# EAGLE library part MAX13433EETD+T (library controller)
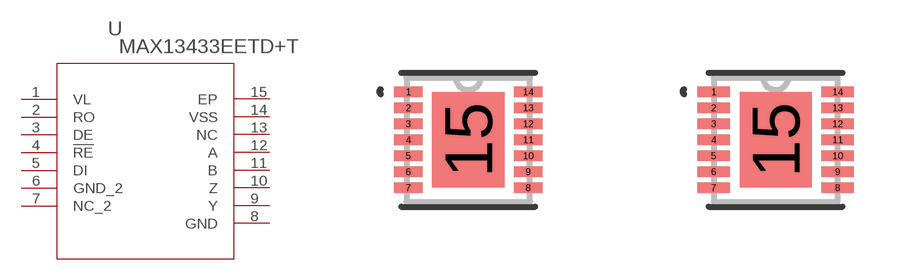
[diagram p7: symbol with the pads of 21-0137I_T1433-1; footprints 21-0137I_T1433-1, 21-0137I_T1433-1-M]

Designator prefix U

## MAX13433EETD+T (MANUFACTURER_PART_NUMBER: MAX13433EETD+T; VENDOR: Maxim Integrated Products)  [21-0137I_T1433-1]
1  VL  pwr
2  RO  out
3  DE  in
4  !RE  in
5  DI  in
6  GND_2  pwr
7  NC_2  nc
8  GND  pwr
9  Y  out
10  Z  out
11  B  in
12  A  pas
13  NC  nc
14  VSS  pwr
15  EP  pwr

## MAX13433EETD+T21-0137I_T1433-1-M (MANUFACTURER_PART_NUMBER: MAX13433EETD+T; VENDOR: Maxim Integrated Products)  [21-0137I_T1433-1-M]
Pads as for 21-0137I_T1433-1

## MAX13433EETD+T21-0137I_T1433-1-L (MANUFACTURER_PART_NUMBER: MAX13433EETD+T; VENDOR: Maxim Integrated Products)  [21-0137I_T1433-1-L]
Pads as for 21-0137I_T1433-1

## Footprint 21-0137I_T1433-1 (pad centres in mm)
smd 0.711 x 0.254: 1 -1.499,1.2; 2 -1.499,0.8; 3 -1.499,0.4; 4 -1.499,0; 5 -1.499,-0.4; 6 -1.499,-0.8; 7 -1.499,-1.2; 8 1.499,-1.2; 9 1.499,-0.8; 10 1.499,-0.4; 11 1.499,0; 12 1.499,0.4; 13 1.499,0.8; 14 1.499,1.2
smd 1.803 x 2.388: 15 0,0

## Footprint 21-0137I_T1433-1-M (pad centres in mm)
smd 0.813 x 0.254: 1 -1.549,1.2; 2 -1.549,0.8; 3 -1.549,0.4; 4 -1.549,0; 5 -1.549,-0.4; 6 -1.549,-0.8; 7 -1.549,-1.2; 8 1.549,-1.2; 9 1.549,-0.8; 10 1.549,-0.4; 11 1.549,0; 12 1.549,0.4; 13 1.549,0.8; 14 1.549,1.2
smd 1.803 x 2.388: 15 0,0

## Footprint 21-0137I_T1433-1-L (pad centres in mm)
smd 0.61 x 0.254: 1 -1.448,1.2; 2 -1.448,0.8; 3 -1.448,0.4; 4 -1.448,0; 5 -1.448,-0.4; 6 -1.448,-0.8; 7 -1.448,-1.2; 8 1.448,-1.2; 9 1.448,-0.8; 10 1.448,-0.4; 11 1.448,0; 12 1.448,0.4; 13 1.448,0.8; 14 1.448,1.2
smd 1.803 x 2.388: 15 0,0